# Altium footprint library ONSC-AXIAL_LEAD-2-59AA-01_P.PcbLib: 1 footprints
Each footprint in its own frame and in the unit in brackets; x right, y up, seen from the top. Pads: shape width x height; smd on the part's side, far side on the other; paste and mask are expansions set on the pad; w line width, h text height; cw(c..) or ccw(c..) is an arc to the next point about the centre after c.
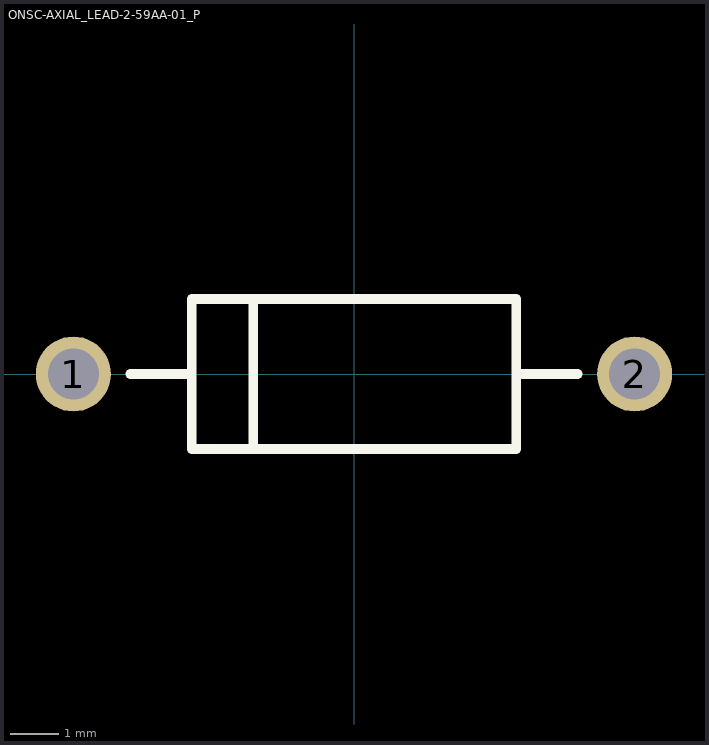
[diagram p0: the footprint, top view; thin cyan lines are the x and y axes]

## ONSC-AXIAL_LEAD-2-59AA-01_P [mm] "AXIAL, 2-Leads, Diameter 3.1mm"
height 3.1
pads (2):
  round 1.55 hole 1.05: 1(-5.795,0) 2(5.795,0)
Top Overlay:
  lines w0.2: -4.62,0 -3.35,0 ; -2.08,-1.55 -2.08,1.55 ; 3.35,0 4.62,0 ; -3.35,-1.55 3.35,-1.55 3.35,1.55 -3.35,1.55 -3.35,-1.55